# Altium footprint library sensor.PcbLib: 1 footprints
Each footprint in its own frame and in the unit in brackets; x right, y up, seen from the top. Pads: shape width x height; smd on the part's side, far side on the other; paste and mask are expansions set on the pad; w line width, h text height; cw(c..) or ccw(c..) is an arc to the next point about the centre after c.
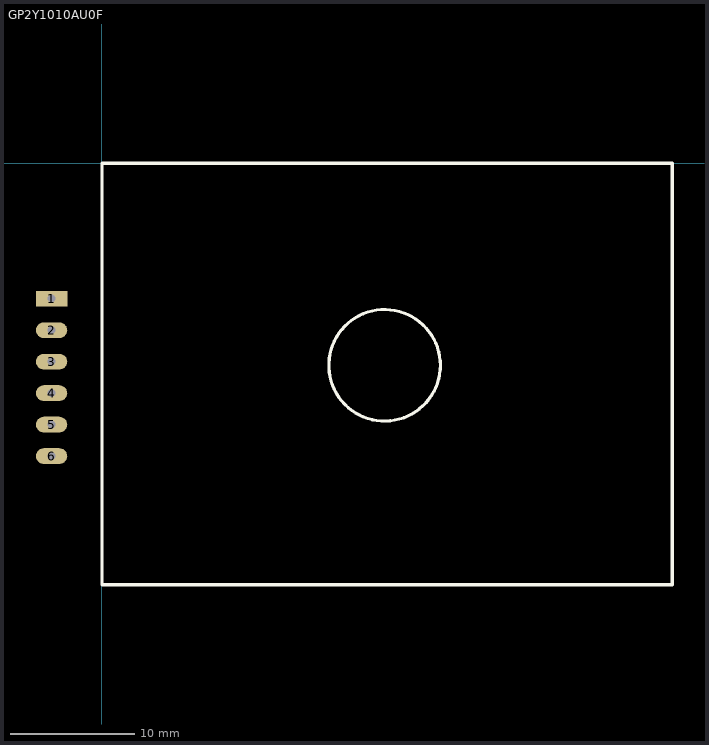
[diagram p0: the footprint, top view; thin cyan lines are the x and y axes]

## GP2Y1010AU0F [mil]
pads (6):
  rect 100x50 hole 25: 1(-160,-430)
  oval 100x50 hole 25: 2(-160,-530) 3(-160,-630) 4(-160,-730) 5(-160,-830) 6(-160,-930)
Top Overlay:
  circle w10: c897.64,-641.73 r177.17
  lines w10: 1809.6,-1338.58 0,-1338.58 0,0 1811.02,0 1811.02,-1338.58